# EAGLE library part R5F10268ASP (library renesas)
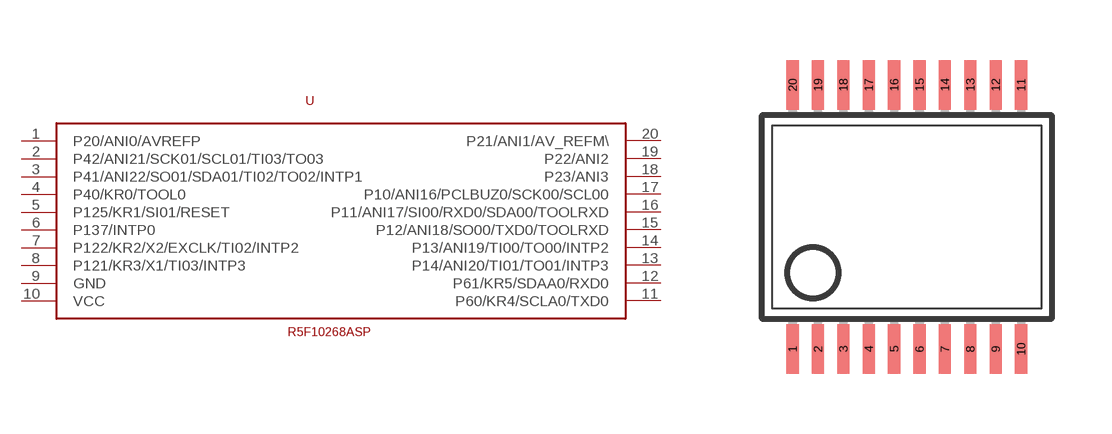
[diagram p0: symbol with the pads of SSOP-20; footprint SSOP-20]

Designator prefix U

## R5F10268ASP  [SSOP-20]
1  P20/ANI0/AVREFP
2  P42/ANI21/SCK01/SCL01/TI03/TO03
3  P41/ANI22/SO01/SDA01/TI02/TO02/INTP1
4  P40/KR0/TOOL0
5  P125/KR1/SI01/RESET
6  P137/INTP0
7  P122/KR2/X2/EXCLK/TI02/INTP2
8  P121/KR3/X1/TI03/INTP3
9  GND
10  VCC
11  P60/KR4/SCLA0/TXD0
12  P61/KR5/SDAA0/RXD0
13  P14/ANI20/TI01/TO01/INTP3
14  P13/ANI19/TI00/TO00/INTP2
15  P12/ANI18/SO00/TXD0/TOOLRXD
16  P11/ANI17/SI00/RXD0/SDA00/TOOLRXD
17  P10/ANI16/PCLBUZ0/SCK00/SCL00
18  P23/ANI3
19  P22/ANI2
20  P21/ANI1/AV_REFM\

## Footprint SSOP-20 (pad centres in mm)
smd 0.305 x 1.245: 1 -2.857,-3.302; 2 -2.222,-3.302; 3 -1.587,-3.302; 4 -0.952,-3.302; 5 -0.317,-3.302; 6 0.318,-3.302; 7 0.953,-3.302; 8 1.588,-3.302; 9 2.223,-3.302; 10 2.858,-3.302; 11 2.858,3.302; 12 2.223,3.302; 13 1.588,3.302; 14 0.953,3.302; 15 0.318,3.302; 16 -0.317,3.302; 17 -0.952,3.302; 18 -1.587,3.302; 19 -2.222,3.302; 20 -2.857,3.302